# EAGLE library part SW_DPDT_7201_VERT (library wheat)
Switch, DPDT toggle, vert PCB C&K 7201MD9V4BE
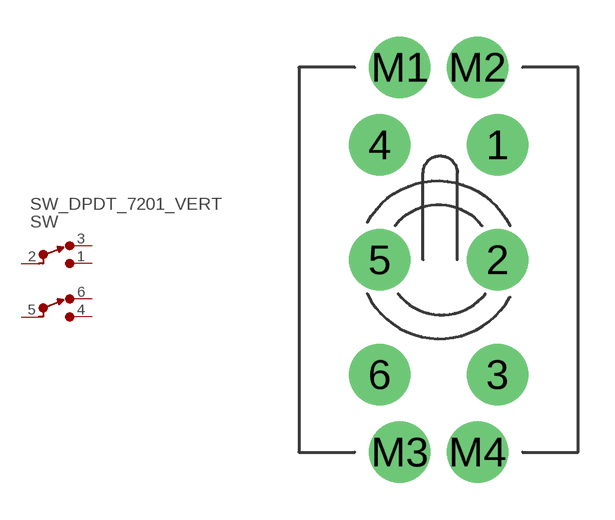
[diagram p122: symbol with the pads of SW_DPDT_7209_VERT; footprint SW_DPDT_7209_VERT]

Designator prefix SW

## SW_DPDT_7201_VERT  [SW_DPDT_7209_VERT]
1  NO1  pas
2  C1  pas
3  NC1  pas
4  NO2  pas
5  C2  pas
6  NC2  pas

## Footprint SW_DPDT_7209_VERT (pad centres in mm)
Switch, DPDT toggle, vert PCB C&K 7201MD9V4BE
drill 1.676: 1 2.413,4.699; 2 2.413,0; 3 2.413,-4.699; 4 -2.413,4.699; 5 -2.413,0; 6 -2.413,-4.699; M1 -1.587,7.874; M2 1.587,7.874; M3 -1.587,-7.874; M4 1.587,-7.874